# Altium footprint library Package_SO.PcbLib: 393 footprints (part 15 of 25)
Each footprint in its own frame and in the unit in brackets; x right, y up, seen from the top. Pads: shape width x height; smd on the part's side, far side on the other; paste and mask are expansions set on the pad; w line width, h text height; cw(c..) or ccw(c..) is an arc to the next point about the centre after c.
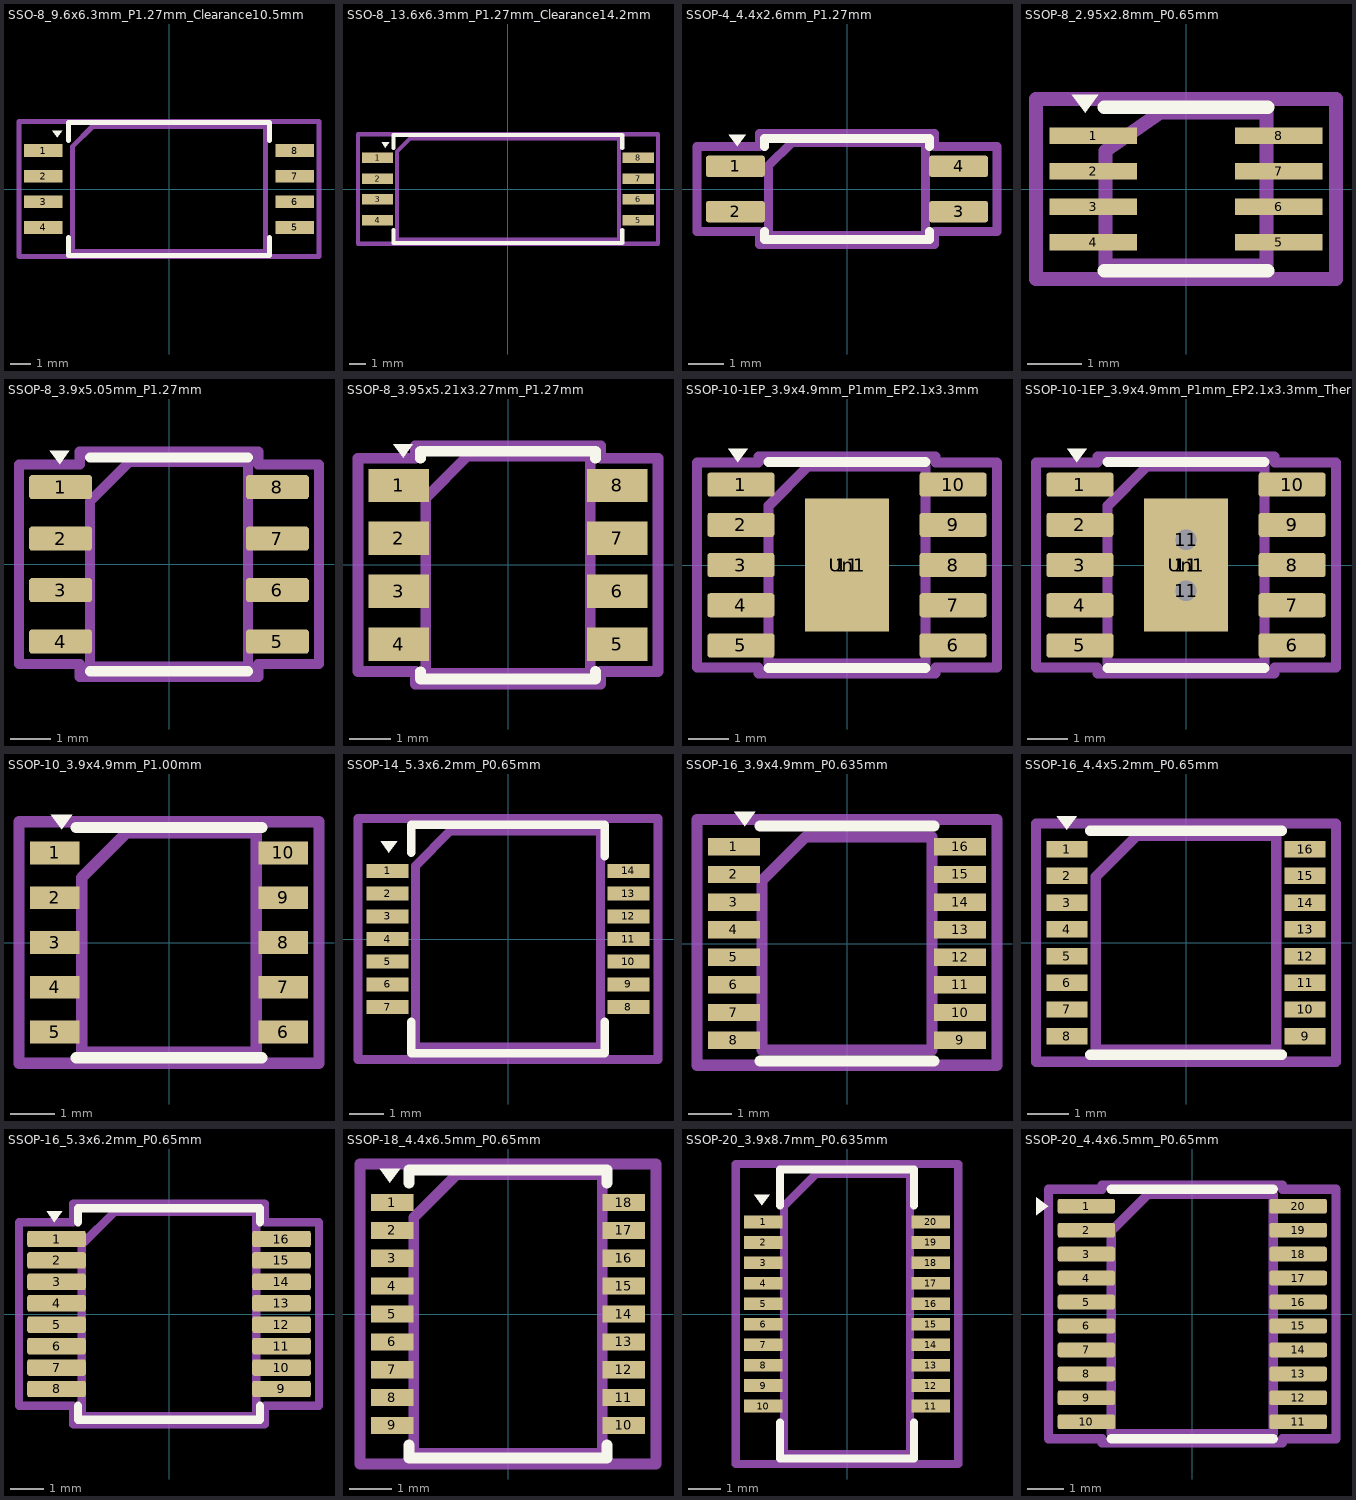
[diagram p14: the footprints below, top view; thin cyan lines are the x and y axes]

## SSO-8_9.6x6.3mm_P1.27mm_Clearance10.5mm [mm]
pads (8):
  rect 1.905x0.64 smd: 1(-6.25,1.905) 2(-6.25,0.635) 3(-6.25,-0.635) 4(-6.25,-1.905) 5(6.25,-1.905) 6(6.25,-0.635) 7(6.25,0.635) 8(6.25,1.905)
F.SilkS:
  region: -5.55,2.575 -5.79,2.905 -5.31,2.905
  lines w0.254: -5,-2.4 -5,-3.3 5,-3.3 5,-2.4 ; -5,2.4 -5,3.3 5,3.3 5,2.4
Top Assembly:
  lines w0.254: -4.8,-3.1 4.8,-3.1 4.8,3.1 -3.8,3.1 -4.8,2.1 -4.8,-3.1
  text "'.Designator'" at -4.047,-0.84 h1
Top Courtyard:
  lines w0.254: -7.45,-3.35 7.45,-3.35 7.45,3.35 -7.45,3.35 -7.45,-3.35
Top Designator:
  text ".Designator" at -7.618,-0.508 h1.52

## SSO-8_13.6x6.3mm_P1.27mm_Clearance14.2mm [mm]
pads (8):
  rect 1.905x0.64 smd: 1(-7.98,1.905) 2(-7.98,0.635) 3(-7.98,-0.635) 4(-7.98,-1.905) 5(7.98,-1.905) 6(7.98,-0.635) 7(7.98,0.635) 8(7.98,1.905)
F.SilkS:
  region: -7.5,2.525 -7.74,2.855 -7.26,2.855
  lines w0.254: -7,-2.5 -7,-3.3 7,-3.3 7,-2.5 ; -7,2.5 -7,3.3 7,3.3 7,2.5
Top Assembly:
  lines w0.254: -6.8,-3.1 6.8,-3.1 6.8,3.1 -6,3.1 -6.8,2.3 -6.8,-3.1
  text "'.Designator'" at -4.047,-0.84 h1
Top Courtyard:
  lines w0.254: -9.18,-3.35 9.19,-3.35 9.19,3.35 -9.18,3.35 -9.18,-3.35
Top Designator:
  text ".Designator" at -7.613,-0.508 h1.52

## SSOP-4_4.4x2.6mm_P1.27mm [mm]
pads (4):
  rrect25% 1.65x0.6 smd: 1(-3.125,0.635) 2(-3.125,-0.635) 3(3.125,-0.635) 4(3.125,0.635)
F.SilkS:
  region: -3.075,1.195 -3.315,1.525 -2.835,1.525
  lines w0.254: -2.31,-1.195 -2.31,-1.41 0,-1.41 2.31,-1.41 2.31,-1.195 ; -2.31,1.195 -2.31,1.41 0,1.41 2.31,1.41 2.31,1.195
Top Assembly:
  lines w0.254: -2.2,-1.3 2.2,-1.3 2.2,1.3 -1.55,1.3 -2.2,0.65 -2.2,-1.3
  text "'.Designator'" at -4.047,-0.84 h1
Top Courtyard:
  lines w0.254: -4.2,-1.19 -2.45,-1.19 -2.45,-1.55 2.45,-1.55 2.45,-1.19 4.2,-1.19 4.2,1.19 2.45,1.19 2.45,1.55 -2.45,1.55 -2.45,1.19 -4.2,1.19 -4.2,-1.19
Top Designator:
  text ".Designator" at -7.618,-0.508 h1.52

## SSOP-8_2.95x2.8mm_P0.65mm [mm]
pads (8):
  rect 1.6x0.3 smd: 1(-1.7,0.975) 2(-1.7,0.325) 3(-1.7,-0.325) 4(-1.7,-0.975) 5(1.7,-0.975) 6(1.7,-0.325) 7(1.7,0.325) 8(1.7,0.975)
F.SilkS:
  region: -1.85,1.4 -2.09,1.73 -1.61,1.73
  lines w0.254: -1.5,-1.5 1.5,-1.5 ; -1.5,1.5 1.5,1.5
Top Assembly:
  lines w0.254: -1.475,-1.4 1.475,-1.4 1.475,1.4 -0.475,1.4 -1.475,0.7 -1.475,-1.4
  text "'.Designator'" at -2.488,-0.564 h0.6
Top Courtyard:
  lines w0.254: -2.75,-1.65 2.75,-1.65 2.75,1.65 -2.75,1.65 -2.75,-1.65
Top Designator:
  text ".Designator" at -7.618,-0.508 h1.52

## SSOP-8_3.9x5.05mm_P1.27mm [mm]
pads (8):
  rrect25% 1.55x0.6 smd: 1(-2.675,1.905) 2(-2.675,0.635) 3(-2.675,-0.635) 4(-2.675,-1.905) 5(2.675,-1.905) 6(2.675,-0.635) 7(2.675,0.635) 8(2.675,1.905)
F.SilkS:
  region: -2.7,2.465 -2.94,2.795 -2.46,2.795
  lines w0.254: -1.95,-2.635 0,-2.635 1.95,-2.635 ; -1.95,2.635 0,2.635 1.95,2.635
Top Assembly:
  lines w0.254: -1.95,-2.525 1.95,-2.525 1.95,2.525 -0.975,2.525 -1.95,1.55 -1.95,-2.525
  text "'.Designator'" at -3.969,-0.827 h0.98
Top Courtyard:
  lines w0.254: -3.7,-2.46 -2.2,-2.46 -2.2,-2.78 2.2,-2.78 2.2,-2.46 3.7,-2.46 3.7,2.46 2.2,2.46 2.2,2.78 -2.2,2.78 -2.2,2.46 -3.7,2.46 -3.7,-2.46
Top Designator:
  text ".Designator" at -7.763,-0.508 h1.52

## SSOP-8_3.95x5.21x3.27mm_P1.27mm [mm]
pads (8):
  rect 1.45x0.8 smd: 1(-2.625,1.905) 2(-2.625,0.635) 3(-2.625,-0.635) 4(-2.625,-1.905) 5(2.625,-1.905) 6(2.625,-0.635) 7(2.625,0.635) 8(2.625,1.905)
F.SilkS:
  region: -2.52,2.57 -2.76,2.9 -2.28,2.9
  lines w0.254: -2.1,-2.57 -2.1,-2.74 2.1,-2.74 ; -2.1,2.56 -2.1,2.73 2.1,2.73 2.1,2.56 ; 2.1,-2.73 2.1,-2.56
Top Assembly:
  lines w0.254: -1.975,-2.605 1.975,-2.605 1.975,2.605 -0.975,2.605 -1.975,1.605 -1.975,-2.605
  text "'.Designator'" at -2.488,-0.564 h0.6
Top Courtyard:
  lines w0.254: -3.6,-2.56 -2.23,-2.56 -2.23,-2.86 2.23,-2.86 2.23,-2.56 3.6,-2.56 3.6,2.56 2.23,2.56 2.23,2.86 -2.23,2.86 -2.23,2.56 -3.6,2.56 -3.6,-2.56
Top Designator:
  text ".Designator" at -7.618,-0.508 h1.52

## SSOP-10-1EP_3.9x4.9mm_P1mm_EP2.1x3.3mm [mm]
pads (12):
  rrect25% 1.675x0.6 smd: 1(-2.638,2) 2(-2.638,1) 3(-2.638,0) 4(-2.638,-1) 5(-2.638,-2) 6(2.638,-2) 7(2.638,-1) 8(2.638,0) 9(2.638,1) 10(2.638,2)
  rect 2.1x3.3 smd: 11(0,0)
  rrect15% 1.69x2.66 on Top Paste: Un1(0,0)
F.SilkS:
  region: -2.712,2.56 -2.953,2.89 -2.472,2.89
  lines w0.254: -1.95,-2.56 0,-2.56 1.95,-2.56 ; -1.95,2.56 0,2.56 1.95,2.56
Top Assembly:
  lines w0.254: -1.95,-2.45 1.95,-2.45 1.95,2.45 -0.975,2.45 -1.95,1.475 -1.95,-2.45
  text "'.Designator'" at -3.969,-0.827 h0.98
Top Courtyard:
  lines w0.254: -3.73,-2.55 -2.2,-2.55 -2.2,-2.7 2.2,-2.7 2.2,-2.55 3.73,-2.55 3.73,2.55 2.2,2.55 2.2,2.7 -2.2,2.7 -2.2,2.55 -3.73,2.55 -3.73,-2.55
Top Designator:
  text ".Designator" at -7.748,-0.476 h1.52

## SSOP-10-1EP_3.9x4.9mm_P1mm_EP2.1x3.3mm_ThermalVias [mm]
pads (15):
  rrect25% 1.675x0.6 smd: 1(-2.638,2) 2(-2.638,1) 3(-2.638,0) 4(-2.638,-1) 5(-2.638,-2) 6(2.638,-2) 7(2.638,-1) 8(2.638,0) 9(2.638,1) 10(2.638,2)
  round 0.81 hole 0.51: 11(0,-0.635) 11(0,0.635)
  rect 2.1x3.3 smd: 11(0,0)
  rect 0.81x2.08 smd far side: 11(0,0)
  rrect15% 1.69x2.66 on Top Paste: Un1(0,0)
F.SilkS:
  region: -2.712,2.56 -2.953,2.89 -2.472,2.89
  lines w0.254: -1.95,-2.56 0,-2.56 1.95,-2.56 ; -1.95,2.56 0,2.56 1.95,2.56
Top Assembly:
  lines w0.254: -1.95,-2.45 1.95,-2.45 1.95,2.45 -0.975,2.45 -1.95,1.475 -1.95,-2.45
  text "'.Designator'" at -3.969,-0.827 h0.98
Top Courtyard:
  lines w0.254: -3.73,-2.55 -2.2,-2.55 -2.2,-2.7 2.2,-2.7 2.2,-2.55 3.73,-2.55 3.73,2.55 2.2,2.55 2.2,2.7 -2.2,2.7 -2.2,2.55 -3.73,2.55 -3.73,-2.55
Top Designator:
  text ".Designator" at -7.748,-0.476 h1.52

## SSOP-10_3.9x4.9mm_P1.00mm [mm]
pads (10):
  rect 1.1x0.51 smd: 1(-2.55,2) 2(-2.55,1) 3(-2.55,0) 4(-2.55,-1) 5(-2.55,-2) 6(2.55,-2) 7(2.55,-1) 8(2.55,0) 9(2.55,1) 10(2.55,2)
F.SilkS:
  region: -2.4,2.527 -2.64,2.857 -2.16,2.857
  lines w0.254: -2.07,-2.57 2.07,-2.57 ; -2.07,2.57 2.07,2.57
Top Assembly:
  lines w0.254: -1.95,-2.45 1.95,-2.45 1.95,2.45 -0.95,2.45 -1.95,1.45 -1.95,-2.45
  text "'.Designator'" at -4.047,-0.84 h1
Top Courtyard:
  lines w0.254: -3.35,-2.7 3.35,-2.7 3.35,2.7 -3.35,2.7 -3.35,-2.7
Top Designator:
  text ".Designator" at -7.768,-0.493 h1.52

## SSOP-14_5.3x6.2mm_P0.65mm [mm]
pads (14):
  rect 1.2x0.4 smd: 1(-3.45,1.95) 2(-3.45,1.3) 3(-3.45,0.65) 4(-3.45,0) 5(-3.45,-0.65) 6(-3.45,-1.3) 7(-3.45,-1.95) 8(3.45,-1.95) 9(3.45,-1.3) 10(3.45,-0.65) 11(3.45,0) 12(3.45,0.65) 13(3.45,1.3) 14(3.45,1.95)
F.SilkS:
  region: -3.413,2.475 -3.652,2.805 -3.173,2.805
  lines w0.254: -2.775,-2.375 -2.775,-3.275 2.775,-3.275 2.775,-2.375 ; -2.775,2.475 -2.775,3.275 2.775,3.275 2.775,2.375
Top Assembly:
  lines w0.254: -2.65,-3.1 2.65,-3.1 2.65,3.1 -1.65,3.1 -2.65,2.1 -2.65,-3.1
  text "'.Designator'" at -3.267,-0.702 h0.8
Top Courtyard:
  lines w0.254: -4.3,-3.45 4.3,-3.45 4.3,3.45 -4.3,3.45 -4.3,-3.45
Top Designator:
  text ".Designator" at -7.618,-0.508 h1.52

## SSOP-16_3.9x4.9mm_P0.635mm [mm]
pads (16):
  rect 1.2x0.4 smd: 1(-2.6,2.222) 2(-2.6,1.587) 3(-2.6,0.953) 4(-2.6,0.318) 5(-2.6,-0.318) 6(-2.6,-0.953) 7(-2.6,-1.587) 8(-2.6,-2.222) 9(2.6,-2.222) 10(2.6,-1.587) 11(2.6,-0.953) 12(2.6,-0.318) 13(2.6,0.318) 14(2.6,0.953) 15(2.6,1.587) 16(2.6,2.222)
F.SilkS:
  region: -2.35,2.7 -2.59,3.03 -2.11,3.03
  lines w0.254: -2,-2.7 2,-2.7 ; -2,2.7 2,2.7
Top Assembly:
  lines w0.254: -1.95,-2.45 1.95,-2.45 1.95,2.45 -0.95,2.45 -1.95,1.45 -1.95,-2.45
  text "'.Designator'" at -3.267,-0.702 h0.8
Top Courtyard:
  lines w0.254: -3.45,-2.8 3.45,-2.8 3.45,2.85 -3.45,2.85 -3.45,-2.8
Top Designator:
  text ".Designator" at -7.618,-0.456 h1.52

## SSOP-16_4.4x5.2mm_P0.65mm [mm]
pads (16):
  rect 1x0.4 smd: 1(-2.9,2.275) 2(-2.9,1.625) 3(-2.9,0.975) 4(-2.9,0.325) 5(-2.9,-0.325) 6(-2.9,-0.975) 7(-2.9,-1.625) 8(-2.9,-2.275) 9(2.9,-2.275) 10(2.9,-1.625) 11(2.9,-0.975) 12(2.9,-0.325) 13(2.9,0.325) 14(2.9,0.975) 15(2.9,1.625) 16(2.9,2.275)
F.SilkS:
  region: -2.9,2.75 -3.14,3.08 -2.66,3.08
  lines w0.254: -2.325,-2.725 2.325,-2.725 ; -2.325,2.725 2.325,2.725
Top Assembly:
  lines w0.254: -2.2,-2.6 2.2,-2.6 2.2,2.6 -1.2,2.6 -2.2,1.6 -2.2,-2.6
  text "'.Designator'" at -3.267,-0.702 h0.8
Top Courtyard:
  lines w0.254: -3.65,-2.9 3.65,-2.9 3.65,2.9 -3.65,2.9 -3.65,-2.9
Top Designator:
  text ".Designator" at -7.618,-0.481 h1.52

## SSOP-16_5.3x6.2mm_P0.65mm [mm]
pads (16):
  rrect25% 1.775x0.5 smd: 1(-3.413,2.275) 2(-3.413,1.625) 3(-3.413,0.975) 4(-3.413,0.325) 5(-3.413,-0.325) 6(-3.413,-0.975) 7(-3.413,-1.625) 8(-3.413,-2.275) 9(3.413,-2.275) 10(3.413,-1.625) 11(3.413,-0.975) 12(3.413,-0.325) 13(3.413,0.325) 14(3.413,0.975) 15(3.413,1.625) 16(3.413,2.275)
F.SilkS:
  region: -3.475,2.785 -3.715,3.115 -3.235,3.115
  lines w0.254: -2.76,-2.785 -2.76,-3.21 0,-3.21 2.76,-3.21 2.76,-2.785 ; -2.76,2.785 -2.76,3.21 0,3.21 2.76,3.21 2.76,2.785
Top Assembly:
  lines w0.254: -2.65,-3.1 2.65,-3.1 2.65,3.1 -1.65,3.1 -2.65,2.1 -2.65,-3.1
  text "'.Designator'" at -4.047,-0.84 h1
Top Courtyard:
  lines w0.254: -4.55,-2.78 -2.9,-2.78 -2.9,-3.35 2.9,-3.35 2.9,-2.78 4.55,-2.78 4.55,2.78 2.9,2.78 2.9,3.35 -2.9,3.35 -2.9,2.78 -4.55,2.78 -4.55,-2.78
Top Designator:
  text ".Designator" at -7.618,-0.508 h1.52

## SSOP-18_4.4x6.5mm_P0.65mm [mm]
pads (18):
  rect 1x0.4 smd: 1(-2.7,2.6) 2(-2.7,1.95) 3(-2.7,1.3) 4(-2.7,0.65) 5(-2.7,0) 6(-2.7,-0.65) 7(-2.7,-1.3) 8(-2.7,-1.95) 9(-2.7,-2.6) 10(2.7,-2.6) 11(2.7,-1.95) 12(2.7,-1.3) 13(2.7,-0.65) 14(2.7,0) 15(2.7,0.65) 16(2.7,1.3) 17(2.7,1.95) 18(2.7,2.6)
F.SilkS:
  region: -2.755,3.06 -2.995,3.39 -2.515,3.39
  lines w0.254: -2.31,-3.06 -2.31,-3.36 2.31,-3.36 2.31,-3.06 ; -2.31,3.06 -2.31,3.36 2.31,3.36 2.31,3.06
Top Assembly:
  lines w0.254: -2.2,-3.25 2.2,-3.25 2.2,3.25 -1.2,3.25 -2.2,2.25 -2.2,-3.25
  text "'.Designator'" at -4.047,-0.84 h1
Top Courtyard:
  lines w0.254: -3.45,-3.5 3.45,-3.5 3.45,3.5 -3.45,3.5 -3.45,-3.5
Top Designator:
  text ".Designator" at -7.768,-0.508 h1.52

## SSOP-20_3.9x8.7mm_P0.635mm [mm]
pads (20):
  rect 1.2x0.4 smd: 1(-2.6,2.857) 2(-2.6,2.222) 3(-2.6,1.587) 4(-2.6,0.953) 5(-2.6,0.318) 6(-2.6,-0.318) 7(-2.6,-0.953) 8(-2.6,-1.587) 9(-2.6,-2.222) 10(-2.6,-2.857) 11(2.6,-2.857) 12(2.6,-2.222) 13(2.6,-1.587) 14(2.6,-0.953) 15(2.6,-0.318) 16(2.6,0.318) 17(2.6,0.953) 18(2.6,1.587) 19(2.6,2.222) 20(2.6,2.857)
F.SilkS:
  region: -2.638,3.365 -2.877,3.695 -2.398,3.695
  lines w0.254: -2.075,-3.365 -2.075,-4.475 2.075,-4.475 2.075,-3.365 ; -2.075,3.365 -2.075,4.475 2.075,4.475 2.075,3.365
Top Assembly:
  lines w0.254: -1.95,-4.35 1.95,-4.35 1.95,4.35 -0.95,4.35 -1.95,3.35 -1.95,-4.35
  text "'.Designator'" at -3.267,-0.702 h0.8
Top Courtyard:
  lines w0.254: -3.45,-4.65 3.45,-4.65 3.45,4.65 -3.45,4.65 -3.45,-4.65
Top Designator:
  text ".Designator" at -7.618,-0.508 h1.52

## SSOP-20_4.4x6.5mm_P0.65mm [mm]
pads (20):
  rrect25% 1.55x0.4 smd: 1(-2.875,2.925) 2(-2.875,2.275) 3(-2.875,1.625) 4(-2.875,0.975) 5(-2.875,0.325) 6(-2.875,-0.325) 7(-2.875,-0.975) 8(-2.875,-1.625) 9(-2.875,-2.275) 10(-2.875,-2.925) 11(2.875,-2.925) 12(2.875,-2.275) 13(2.875,-1.625) 14(2.875,-0.975) 15(2.875,-0.325) 16(2.875,0.325) 17(2.875,0.975) 18(2.875,1.625) 19(2.875,2.275) 20(2.875,2.925)
F.SilkS:
  region: -3.91,2.925 -4.24,2.685 -4.24,3.165
  lines w0.254: -2.2,-3.385 0,-3.385 2.2,-3.385 ; -2.2,3.385 0,3.385 2.2,3.385
Top Assembly:
  lines w0.254: -2.2,-3.25 2.2,-3.25 2.2,3.25 -1.2,3.25 -2.2,2.25 -2.2,-3.25
  text "'.Designator'" at -4.047,-0.84 h1
Top Courtyard:
  lines w0.254: -3.9,-3.38 -2.45,-3.38 -2.45,-3.5 2.45,-3.5 2.45,-3.38 3.9,-3.38 3.9,3.38 2.45,3.38 2.45,3.5 -2.45,3.5 -2.45,3.38 -3.9,3.38 -3.9,-3.38
Top Designator:
  text ".Designator" at -7.724,-0.508 h1.52